# EAGLE library part GPBS-800L (library GPBS-800L)
Pushbutton Switches DPDT Latching ON-ON Source: Datasheet <http://switches-connectors-custom.cwind.com/Asset/GPBS800LR1.pdf>
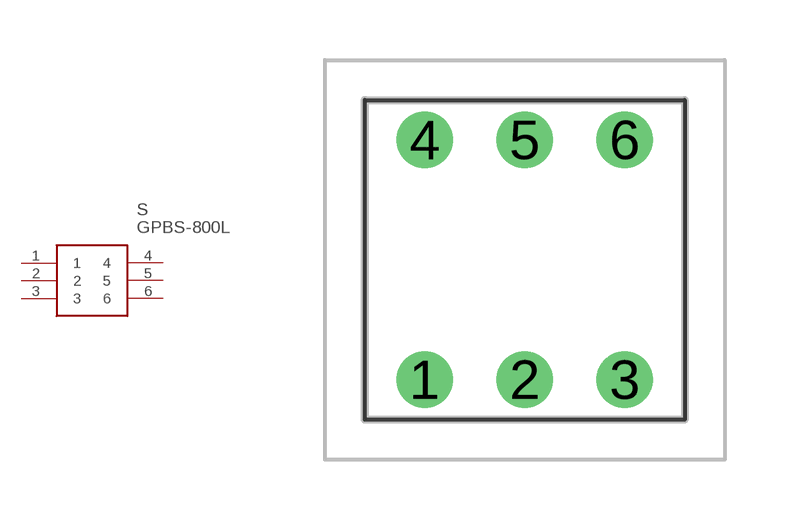
[diagram p0: symbol with the pads of GPBS800L; footprint GPBS800L]

Designator prefix S

## GPBS-800L (Description: Pushbutton Switches DPDT Latching ON-ON; Height: 13mm; Manufacturer_Name: CW Industries; Manufacturer_Part_Number: GPBS-800L; Mouser_Part_Number: 629-GPBS-800L; Mouser_Price-Stock: https://www.mouser.co.uk/ProductDetail/CW-Industries/GPBS-800L?qs=sajaCoHCXPRO4feefwykvw%3D%3D)  [GPBS800L]
1  1
2  2
3  3
4  4
5  5
6  6

## Footprint GPBS800L (pad centres in mm)
GPBS-800L
drill 0.9 pad 1.4: 1 -2.5,-3; 2 0,-3; 3 2.5,-3; 4 -2.5,3; 5 0,3; 6 2.5,3